# Altium schematic symbol library CGA9N3X7R1C476M230KB.SchLib: 1 symbol
Pins are listed as number, name and electrical type; pins without a type are passive.

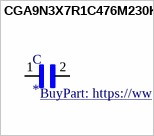
[diagram p0: symbol CGA9N3X7R1C476M230KB]

## CGA9N3X7R1C476M230KB
designator C
47ÂµF Â±20% 16V Ceramic Capacitor X7R 2220 (5750 Metric); MP: CGA9N3X7R1C476M230KB; MF: TDK; SnapEDA_Link: https://www.snapeda.com/parts/CGA9N3X7R1C476M230KB/TDK/view-part/1756766/?ref=snap; Digi-Key_Part_Number: 445-7935-1-ND; Value: *; Mouser-Purchase-URL: https://snapeda.com/shop?store=Mouser&id=1756766; Package: 2220 TDK; DigiKey-Purchase-URL: https://snapeda.com/shop?store=DigiKey&id=1756766; BuyPart: https://www.snapeda.com/parts/CGA9N3X7R1C476M230KB/TDK/view-part/1756766/?ref=eda
footprint CAP_CGA9N3X7R1C476M230KB
pins: 1, 2